# EAGLE library part LPC2378 (library Traficon)
LPC2378 Single-chip 16-bit/32-bit microcontrollers; 512 kB flash with ISP/IAP, Ethernet, USB 2.0, CAN, 10-bit ADC/DAC
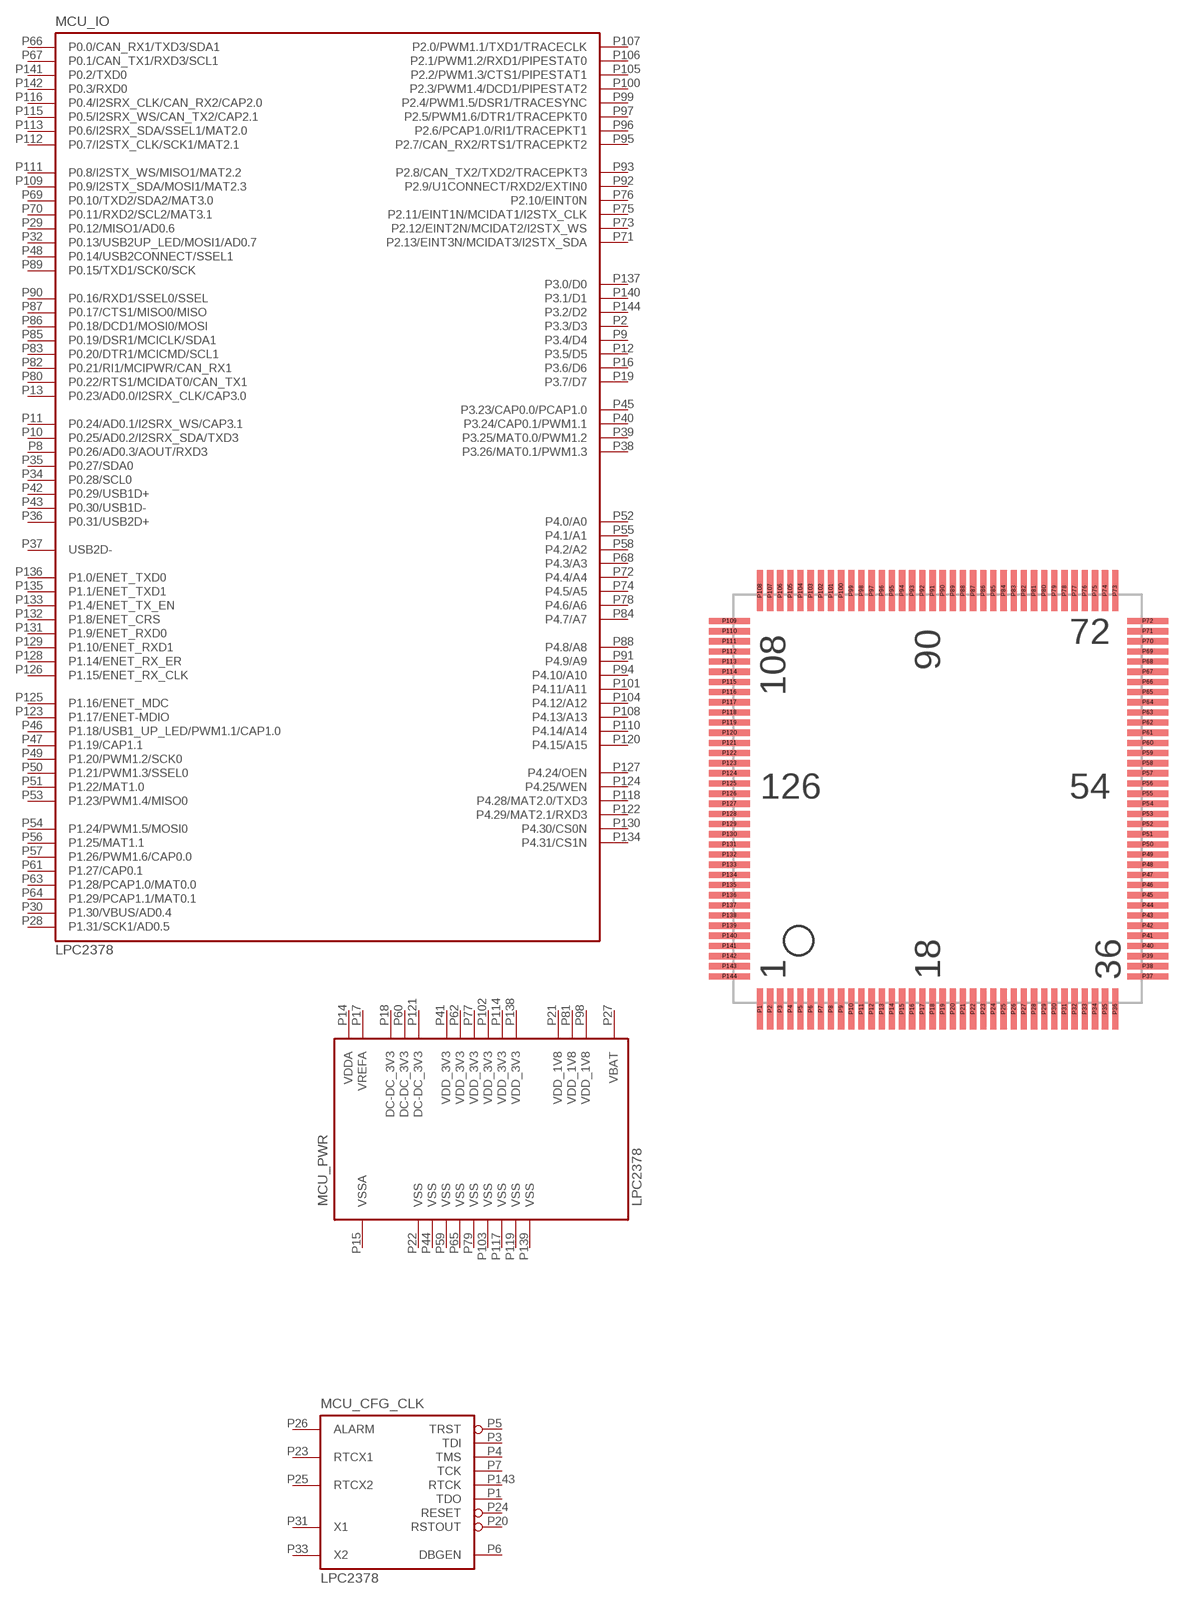
[diagram p97: symbol with the pads of LQFP144; footprint LQFP144]

Designator prefix MCU; gates _IO=LPC2378_IO _CFG_CLK=LPC_2378_MISC _PWR=LPC2378_POWER

## LPC2378FPD144  [LQFP144]
P1  _CFG_CLK:TDO
P2  _IO:P3.3/D3
P3  _CFG_CLK:TDI
P4  _CFG_CLK:TMS
P5  _CFG_CLK:TRST
P6  _CFG_CLK:DBGEN
P7  _CFG_CLK:TCK
P8  _IO:P0.26/AD0.3/AOUT/RXD3
P9  _IO:P3.4/D4
P10  _IO:P0.25/AD0.2/I2SRX_SDA/TXD3
P11  _IO:P0.24/AD0.1/I2SRX_WS/CAP3.1
P12  _IO:P3.5/D5
P13  _IO:P0.23/AD0.0/I2SRX_CLK/CAP3.0
P14  _PWR:VDDA  pwr
P15  _PWR:VSSA  pwr
P16  _IO:P3.6/D6
P17  _PWR:VREFA  pwr
P18  _PWR:DC-DC_3V3  pas
P19  _IO:P3.7/D7
P20  _CFG_CLK:RSTOUT
P21  _PWR:VDD_1V8  pwr
P22  _PWR:VSS  pwr
P23  _CFG_CLK:RTCX1
P24  _CFG_CLK:RESET
P25  _CFG_CLK:RTCX2
P26  _CFG_CLK:ALARM
P27  _PWR:VBAT  pwr
P28  _IO:P1.31/SCK1/AD0.5
P29  _IO:P0.12/MISO1/AD0.6
P30  _IO:P1.30/VBUS/AD0.4
P31  _CFG_CLK:X1
P32  _IO:P0.13/USB2UP_LED/MOSI1/AD0.7
P33  _CFG_CLK:X2
P34  _IO:P0.28/SCL0
P35  _IO:P0.27/SDA0
P36  _IO:P0.31/USB2D+
P37  _IO:USB2D-
P38  _IO:P3.26/MAT0.1/PWM1.3
P39  _IO:P3.25/MAT0.0/PWM1.2
P40  _IO:P3.24/CAP0.1/PWM1.1
P41  _PWR:VDD_3V3  pwr
P42  _IO:P0.29/USB1D+
P43  _IO:P0.30/USB1D-
P44  _PWR:VSS  pwr
P45  _IO:P3.23/CAP0.0/PCAP1.0
P46  _IO:P1.18/USB1_UP_LED/PWM1.1/CAP1.0
P47  _IO:P1.19/CAP1.1
P48  _IO:P0.14/USB2CONNECT/SSEL1
P49  _IO:P1.20/PWM1.2/SCK0
P50  _IO:P1.21/PWM1.3/SSEL0
P51  _IO:P1.22/MAT1.0
P52  _IO:P4.0/A0
P53  _IO:P1.23/PWM1.4/MISO0
P54  _IO:P1.24/PWM1.5/MOSI0
P55  _IO:P4.1/A1
P56  _IO:P1.25/MAT1.1
P57  _IO:P1.26/PWM1.6/CAP0.0
P58  _IO:P4.2/A2
P59  _PWR:VSS  pwr
P60  _PWR:DC-DC_3V3  pas
P61  _IO:P1.27/CAP0.1
P62  _PWR:VDD_3V3  pwr
P63  _IO:P1.28/PCAP1.0/MAT0.0
P64  _IO:P1.29/PCAP1.1/MAT0.1
P65  _PWR:VSS  pwr
P66  _IO:P0.0/CAN_RX1/TXD3/SDA1
P67  _IO:P0.1/CAN_TX1/RXD3/SCL1
P68  _IO:P4.3/A3
P69  _IO:P0.10/TXD2/SDA2/MAT3.0
P70  _IO:P0.11/RXD2/SCL2/MAT3.1
P71  _IO:P2.13/EINT3N/MCIDAT3/I2STX_SDA
P72  _IO:P4.4/A4
P73  _IO:P2.12/EINT2N/MCIDAT2/I2STX_WS
P74  _IO:P4.5/A5
P75  _IO:P2.11/EINT1N/MCIDAT1/I2STX_CLK
P76  _IO:P2.10/EINT0N
P77  _PWR:VDD_3V3  pwr
P78  _IO:P4.6/A6
P79  _PWR:VSS  pwr
P80  _IO:P0.22/RTS1/MCIDAT0/CAN_TX1
P81  _PWR:VDD_1V8  pwr
P82  _IO:P0.21/RI1/MCIPWR/CAN_RX1
P83  _IO:P0.20/DTR1/MCICMD/SCL1
P84  _IO:P4.7/A7
P85  _IO:P0.19/DSR1/MCICLK/SDA1
P86  _IO:P0.18/DCD1/MOSI0/MOSI
P87  _IO:P0.17/CTS1/MISO0/MISO
P88  _IO:P4.8/A8
P89  _IO:P0.15/TXD1/SCK0/SCK
P90  _IO:P0.16/RXD1/SSEL0/SSEL
P91  _IO:P4.9/A9
P92  _IO:P2.9/U1CONNECT/RXD2/EXTIN0
P93  _IO:P2.8/CAN_TX2/TXD2/TRACEPKT3
P94  _IO:P4.10/A10
P95  _IO:P2.7/CAN_RX2/RTS1/TRACEPKT2
P96  _IO:P2.6/PCAP1.0/RI1/TRACEPKT1
P97  _IO:P2.5/PWM1.6/DTR1/TRACEPKT0
P98  _PWR:VDD_1V8  pwr
P99  _IO:P2.4/PWM1.5/DSR1/TRACESYNC
P100  _IO:P2.3/PWM1.4/DCD1/PIPESTAT2
P101  _IO:P4.11/A11
P102  _PWR:VDD_3V3  pwr
P103  _PWR:VSS  pwr
P104  _IO:P4.12/A12
P105  _IO:P2.2/PWM1.3/CTS1/PIPESTAT1
P106  _IO:P2.1/PWM1.2/RXD1/PIPESTAT0
P107  _IO:P2.0/PWM1.1/TXD1/TRACECLK
P108  _IO:P4.13/A13
P109  _IO:P0.9/I2STX_SDA/MOSI1/MAT2.3
P110  _IO:P4.14/A14
P111  _IO:P0.8/I2STX_WS/MISO1/MAT2.2
P112  _IO:P0.7/I2STX_CLK/SCK1/MAT2.1
P113  _IO:P0.6/I2SRX_SDA/SSEL1/MAT2.0
P114  _PWR:VDD_3V3  pwr
P115  _IO:P0.5/I2SRX_WS/CAN_TX2/CAP2.1
P116  _IO:P0.4/I2SRX_CLK/CAN_RX2/CAP2.0
P117  _PWR:VSS  pwr
P118  _IO:P4.28/MAT2.0/TXD3
P119  _PWR:VSS  pwr
P120  _IO:P4.15/A15
P121  _PWR:DC-DC_3V3  pas
P122  _IO:P4.29/MAT2.1/RXD3
P123  _IO:P1.17/ENET-MDIO
P124  _IO:P4.25/WEN
P125  _IO:P1.16/ENET_MDC
P126  _IO:P1.15/ENET_RX_CLK
P127  _IO:P4.24/OEN
P128  _IO:P1.14/ENET_RX_ER
P129  _IO:P1.10/ENET_RXD1
P130  _IO:P4.30/CS0N
P131  _IO:P1.9/ENET_RXD0
P132  _IO:P1.8/ENET_CRS
P133  _IO:P1.4/ENET_TX_EN
P134  _IO:P4.31/CS1N
P135  _IO:P1.1/ENET_TXD1
P136  _IO:P1.0/ENET_TXD0
P137  _IO:P3.0/D0
P138  _PWR:VDD_3V3  pwr
P139  _PWR:VSS  pwr
P140  _IO:P3.1/D1
P141  _IO:P0.2/TXD0
P142  _IO:P0.3/RXD0
P143  _CFG_CLK:RTCK
P144  _IO:P3.2/D2

## Footprint LQFP144 (pad centres in mm)
smd 0.305 x 2: P1 -8.89,-10.34; P2 -8.39,-10.34; P3 -7.89,-10.34; P4 -7.39,-10.34; P5 -6.89,-10.34; P6 -6.39,-10.34; P7 -5.89,-10.34; P8 -5.39,-10.34; P9 -4.89,-10.34; P10 -4.39,-10.34; P11 -3.89,-10.34; P12 -3.39,-10.34; P13 -2.89,-10.34; P14 -2.39,-10.34; P15 -1.89,-10.34; P16 -1.39,-10.34; P17 -0.89,-10.34; P18 -0.39,-10.34; P19 0.11,-10.34; P20 0.61,-10.34; P21 1.11,-10.34; P22 1.61,-10.34; P23 2.11,-10.34; P24 2.61,-10.34; P25 3.11,-10.34; P26 3.61,-10.34; P27 4.11,-10.34; P28 4.61,-10.34; P29 5.11,-10.34; P30 5.61,-10.34; P31 6.11,-10.34; P32 6.61,-10.34; P33 7.11,-10.34; P34 7.61,-10.34; P35 8.11,-10.34; P36 8.61,-10.34; P73 8.61,10.26; P74 8.11,10.26; P75 7.61,10.26; P76 7.11,10.26; P77 6.61,10.26; P78 6.11,10.26; P79 5.61,10.26; P80 5.11,10.26; P81 4.61,10.26; P82 4.11,10.26; P83 3.61,10.26; P84 3.11,10.26; P85 2.61,10.26; P86 2.11,10.26; P87 1.61,10.26; P88 1.11,10.26; P89 0.61,10.26; P90 0.11,10.26; P91 -0.39,10.26; P92 -0.89,10.26; P93 -1.39,10.26; P94 -1.89,10.26; P95 -2.39,10.26; P96 -2.89,10.26; P97 -3.39,10.26; P98 -3.89,10.26; P99 -4.39,10.26; P100 -4.89,10.26; P101 -5.39,10.26; P102 -5.89,10.26; P103 -6.39,10.26; P104 -6.89,10.26; P105 -7.39,10.26; P106 -7.89,10.26; P107 -8.39,10.26; P108 -8.89,10.26
smd 2 x 0.305: P37 10.21,-8.74; P38 10.21,-8.24; P39 10.21,-7.74; P40 10.21,-7.24; P41 10.21,-6.74; P42 10.21,-6.24; P43 10.21,-5.74; P44 10.21,-5.24; P45 10.21,-4.74; P46 10.21,-4.24; P47 10.21,-3.74; P48 10.21,-3.24; P49 10.21,-2.74; P50 10.21,-2.24; P51 10.21,-1.74; P52 10.21,-1.24; P53 10.21,-0.74; P54 10.21,-0.24; P55 10.21,0.26; P56 10.21,0.76; P57 10.21,1.26; P58 10.21,1.76; P59 10.21,2.26; P60 10.21,2.76; P61 10.21,3.26; P62 10.21,3.76; P63 10.21,4.26; P64 10.21,4.76; P65 10.21,5.26; P66 10.21,5.76; P67 10.21,6.26; P68 10.21,6.76; P69 10.21,7.26; P70 10.21,7.76; P71 10.21,8.26; P72 10.21,8.76; P109 -10.39,8.76; P110 -10.39,8.26; P111 -10.39,7.76; P112 -10.39,7.26; P113 -10.39,6.76; P114 -10.39,6.26; P115 -10.39,5.76; P116 -10.39,5.26; P117 -10.39,4.76; P118 -10.39,4.26; P119 -10.39,3.76; P120 -10.39,3.26; P121 -10.39,2.76; P122 -10.39,2.26; P123 -10.39,1.76; P124 -10.39,1.26; P125 -10.39,0.76; P126 -10.39,0.26; P127 -10.39,-0.24; P128 -10.39,-0.74; P129 -10.39,-1.24; P130 -10.39,-1.74; P131 -10.39,-2.24; P132 -10.39,-2.74; P133 -10.39,-3.24; P134 -10.39,-3.74; P135 -10.39,-4.24; P136 -10.39,-4.74; P137 -10.39,-5.24; P138 -10.39,-5.74; P139 -10.39,-6.24; P140 -10.39,-6.74; P141 -10.39,-7.24; P142 -10.39,-7.74; P143 -10.39,-8.24; P144 -10.39,-8.74